# Altium schematic symbol library Socket 2X2.SchLib: 1 symbol
Pins are listed as number, name and electrical type; pins without a type are passive.

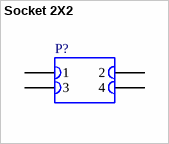
[diagram p0: symbol Socket 2X2]

## Socket 2X2
designator P?
Socket, 2-Pin, Dual row
pins: 1, 2, 3, 4